# EAGLE library part RN4020_BT_4.0_MODULE (library custom_ics)
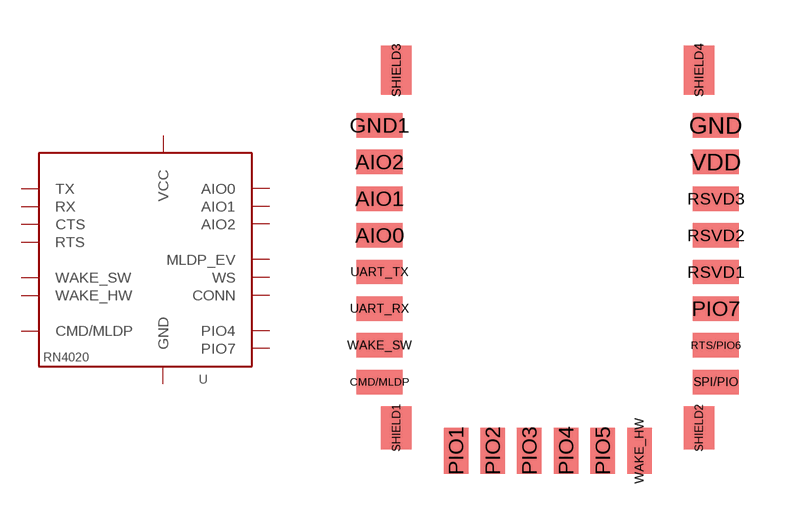
[diagram p0: symbol with the pads of RN20-BTLE-MODULE; footprint RN20-BTLE-MODULE]

Designator prefix U

## RN4020_BT_4.0_MODULE (DESCRIPTION: RN4020 Bluetooth 4.0 Module; DIGIKEY-PN: RN4020-V/RM-ND; FOOTPRINT: Custom SMD)  [RN20-BTLE-MODULE]
AIO0  AIO0
AIO1  AIO1
AIO2  AIO2
CMD/MLDP  CMD/MLDP
GND  GND
GND1  GND
PIO1  CONN
PIO2  MLDP_EV
PIO3  WS
PIO4  PIO4
PIO5  CTS
PIO7  PIO7
RTS/PIO6  RTS
SHIELD1  GND
SHIELD2  GND
SHIELD3  GND
SHIELD4  GND
UART_RX  RX
UART_TX  TX
VDD  VCC
WAKE_HW  WAKE_HW
WAKE_SW  WAKE_SW

## Footprint RN20-BTLE-MODULE (pad centres in mm)
RN4020 Bluetooth 4.0 module, surface mount castellation form-factor 19.5mm x 11.5mm
smd 1.5 x 0.8: AIO0 0.25,7.3; AIO1 0.25,8.5; AIO2 0.25,9.7; CMD/MLDP 0.25,2.5; GND 11.25,10.9; GND1 0.25,10.9; PIO7 11.25,4.9; RSVD1 11.25,6.1; RSVD2 11.25,7.3; RSVD3 11.25,8.5; RTS/PIO6 11.25,3.7; SPI/PIO 11.25,2.5; UART_RX 0.25,4.9; UART_TX 0.25,6.1; VDD 11.25,9.7; WAKE_SW 0.25,3.7
smd 0.8 x 1.5: PIO1 2.75,0.25; PIO2 3.95,0.25; PIO3 5.15,0.25; PIO4 6.35,0.25; PIO5 7.55,0.25; WAKE_HW 8.75,0.25
smd 1 x 1.4: SHIELD1 0.8,1; SHIELD2 10.7,1
smd 1 x 1.6: SHIELD3 0.8,12.7; SHIELD4 10.7,12.7